# EAGLE library part TPD4S010DQAR (library REV BLDC)
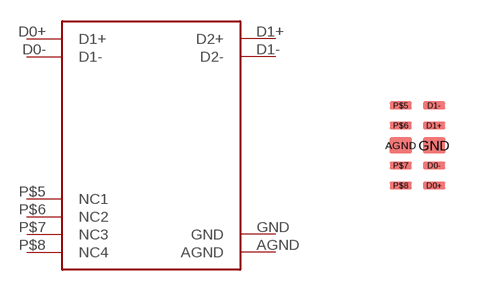
[diagram p2: symbol with the pads of TPD4S010DQAR; footprint TPD4S010DQAR]

Designator prefix -

## TPD4S010DQAR  [TPD4S010DQAR]
AGND  AGND
D0+  D1+
D0-  D1-
D1+  D2+
D1-  D2-
GND  GND
P$5  NC1
P$6  NC2
P$7  NC3
P$8  NC4

## Footprint TPD4S010DQAR (pad centres in mm)
smd 0.565 x 0.4: AGND -0.417,0; GND 0.417,0
smd 0.565 x 0.2: D0+ 0.417,-1; D0- 0.417,-0.5; D1+ 0.417,0.5; D1- 0.417,1; P$5 -0.417,1; P$6 -0.417,0.5; P$7 -0.417,-0.5; P$8 -0.417,-1